# Altium footprint library SW.PcbLib: 1 footprints
Each footprint in its own frame and in the unit in brackets; x right, y up, seen from the top. Pads: shape width x height; smd on the part's side, far side on the other; paste and mask are expansions set on the pad; w line width, h text height; cw(c..) or ccw(c..) is an arc to the next point about the centre after c.
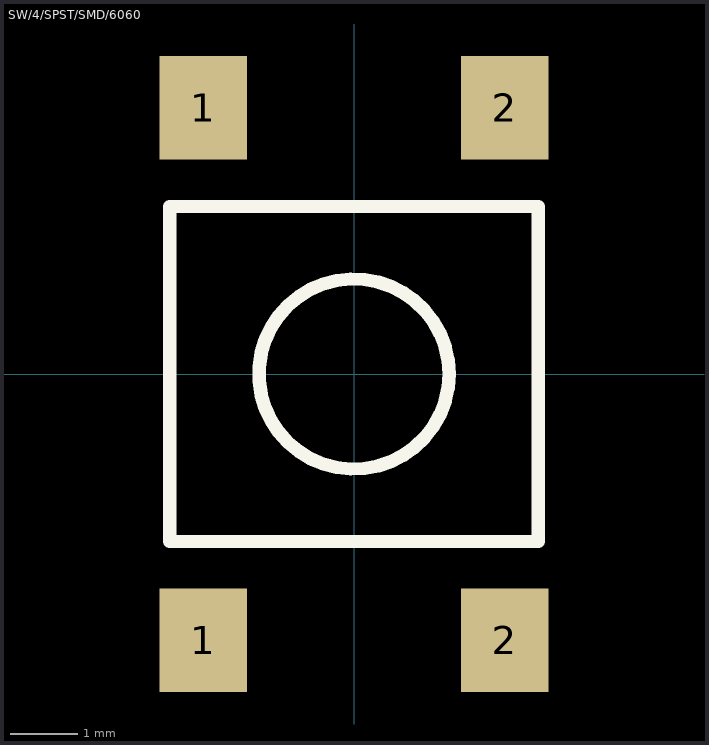
[diagram p0: the footprint, top view; thin cyan lines are the x and y axes]

## SW/4/SPST/SMD/6060 [mm]
pads (4):
  rect 1.3x1.55 smd: 1(-2.25,-3.975) 1(-2.25,3.975) 2(2.25,-3.975) 2(2.25,3.975)
Top Overlay:
  circle w0.2: c0,0 r1.42
  lines w0.2: -2.75,-2.5 2.75,-2.5 2.75,2.5 -2.75,2.5 -2.75,-2.5
3D body "User Library-PTS645SL50SMTR92-LFS.STEP": height 5, standoff 0, extent -3,-4.5 3,4.5